# Altium footprint library WS2812B.PcbLib: 1 footprints
Each footprint in its own frame and in the unit in brackets; x right, y up, seen from the top. Pads: shape width x height; smd on the part's side, far side on the other; paste and mask are expansions set on the pad; w line width, h text height; cw(c..) or ccw(c..) is an arc to the next point about the centre after c.
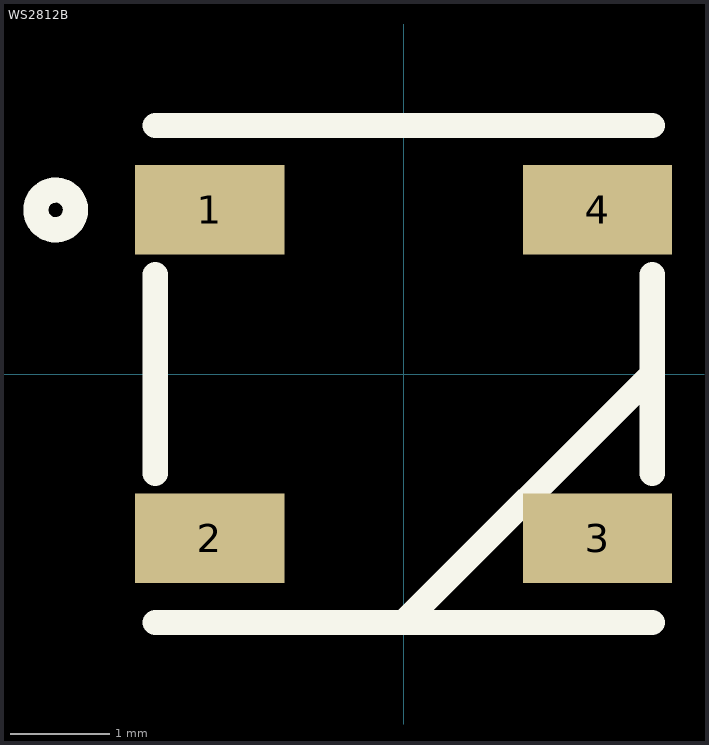
[diagram p0: the footprint, top view; thin cyan lines are the x and y axes]

## WS2812B [mm] "RGB 620~630nm Red, 515~530nm Green, 465~475nm Blue SMD,5x5mm Light Emitting Diodes (LED) ROHS"
height 1.57
pads (4):
  rect 1.5x0.9 smd: 1(-1.95,1.65) 2(-1.95,-1.65) 3(1.95,-1.65) 4(1.95,1.65)
Top Overlay:
  circle w0.254: c-3.5,1.65 r0.2
  lines w0.254: -2.5,-2.5 2.5,-2.5 ; -2.5,-1 -2.5,1 ; -2.5,2.5 2.5,2.5 ; 0,-2.5 2.5,0 ; 2.5,-1 2.5,1